# EAGLE library part TMUX1111RSVR (library SamacSys_Parts)
Analogue Switch ICs 3-pA on-state leakage current, 5-V, 1:1 (SPST), 4-channel precision switch (4 active low) 16-UQFN -40 to 125 Source: Datasheet
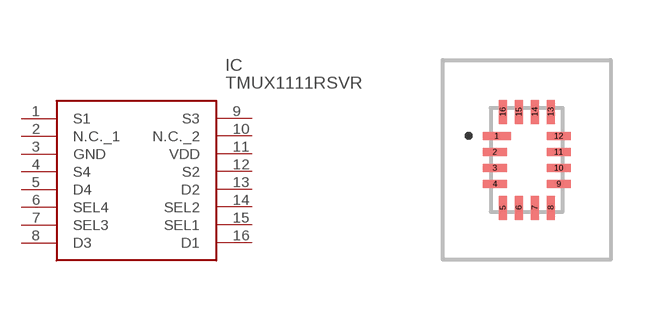
[diagram p91: symbol with the pads of TMUX1111RSVR; footprint TMUX1111RSVR]

Designator prefix IC

## TMUX1111RSVR (DESCRIPTION: Analogue Switch ICs 3-pA on-state leakage current, 5-V, 1:1 (SPST), 4-channel precision switch (4 active low) 16-UQFN -40 to 125; HEIGHT: 0.55mm; MANUFACTURER_NAME: Texas Instruments; MANUFACTURER_PART_NUMBER: TMUX1111RSVR; MOUSER_PART_NUMBER: 595-TMUX1111RSVR; MOUSER_PRICE-STOCK: https://www.mouser.co.uk/ProductDetail/Texas-Instruments/TMUX1111RSVR?qs=9r4v7xj2Lnkvc7I9Pcd5nw%3D%3D)  [TMUX1111RSVR]
1  S1
2  N.C._1
3  GND
4  S4
5  D4
6  SEL4
7  SEL3
8  D3
9  S3
10  N.C._2
11  VDD
12  S2
13  D2
14  SEL2
15  SEL1
16  D1

## Footprint TMUX1111RSVR (pad centres in mm)
RSV0016A_2022
smd 0.7 x 0.2: 1 -0.75,0.6
smd 0.6 x 0.2: 2 -0.8,0.2; 3 -0.8,-0.2; 4 -0.8,-0.6; 9 0.8,-0.6; 10 0.8,-0.2; 11 0.8,0.2; 12 0.8,0.6
smd 0.2 x 0.6: 5 -0.6,-1.2; 6 -0.2,-1.2; 7 0.2,-1.2; 8 0.6,-1.2; 13 0.6,1.2; 14 0.2,1.2; 15 -0.2,1.2; 16 -0.6,1.2